# EAGLE library part ESP8266-12F (library ESP8266-12F)
ESP8266-12F Author: Konstantin Polyakov Date: March, 2018
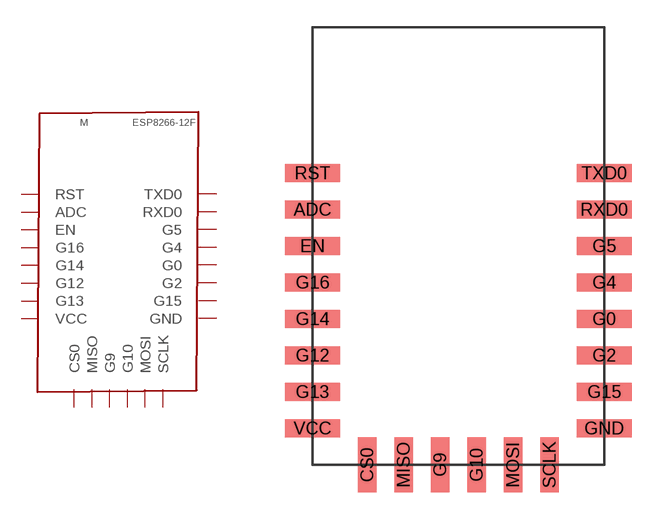
[diagram p0: symbol with the pads of ESP8266-12F; footprint ESP8266-12F]

Designator prefix M

## ESP8266-12F  [ESP8266-12F]
ADC  ADC
CS0  CS0
EN  EN
G0  G0
G2  G2
G4  G4
G5  G5
G9  G9
G10  G10
G12  G12
G13  G13
G14  G14
G15  G15
G16  G16
GND  GND  sup
MISO  MISO
MOSI  MOSI
RST  RST
RXD0  RXD0
SCLK  SCLK
TXD0  TXD0
VCC  VCC  pwr

## Footprint ESP8266-12F (pad centres in mm)
smd 3 x 1: ADC 0,14; EN 0,12; G0 16,8; G2 16,6; G4 16,10; G5 16,12; G12 0,6; G13 0,4; G14 0,8; G15 16,4; G16 0,10; GND 16,2; RST 0,16; RXD0 16,14; TXD0 16,16; VCC 0,2
smd 1 x 3: CS0 3,0; G9 7,0; G10 9,0; MISO 5,0; MOSI 11,0; SCLK 13,0